# Altium integrated library ABLS-16.000MHZ-B4.IntLib: 1 symbol
Pins are listed as number, name and electrical type; pins without a type are passive.

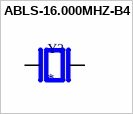
[diagram p0: symbol ABLS-16.000MHZ-B4]

## ABLS-16.000MHZ-B4
designator Y?
16 MHz Â±30ppm Crystal 18pF 40 Ohms HC-49/US; MP: ABLS-16.000MHZ-B4; MF: Abracon; Check_prices: https://www.snapeda.com/parts/ABLS-16.000MHZ-B4/Abracon/view-part/?ref=eda; Availability: In Stock; SnapEDA_Link: https://www.snapeda.com/parts/ABLS-16.000MHZ-B4/Abracon/view-part/?ref=snap; Value: *; Price: None; Package: HC-49/US Abracon LLC; Purchase-URL: https://pricing.snapeda.com/search/part/ABLS-16.000MHZ-B4/?ref=eda
footprint XTAL_ABLS-16.000MHZ-B4
pins: 1, 2